# EAGLE library part X11X2 (library connectors)
Connector 2x11 pins
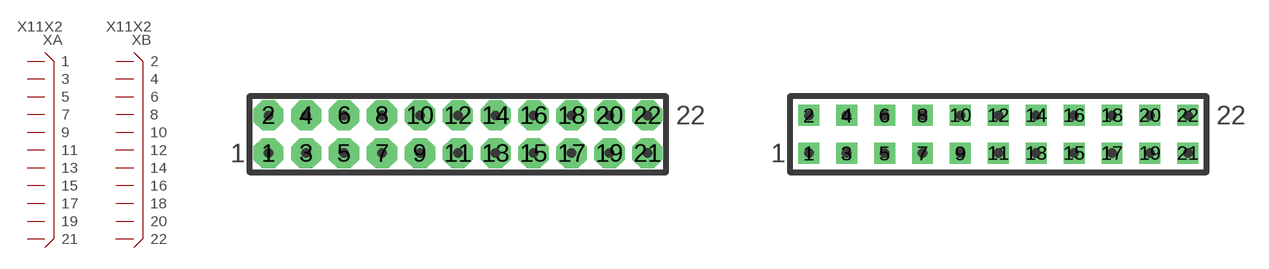
[diagram p46: symbol with the pads of X22N-DIL; footprints X22N-DIL, X22R-DIL]

Designator prefix X; gates A=X22A B=X22B

## X11X2D  [X22N-DIL]
1  A:1
2  B:2
3  A:3
4  B:4
5  A:5
6  B:6
7  A:7
8  B:8
9  A:9
10  B:10
11  A:11
12  B:12
13  A:13
14  B:14
15  A:15
16  B:16
17  A:17
18  B:18
19  A:19
20  B:20
21  A:21
22  B:22

## X11X2DR  [X22R-DIL]
Pads as for X22N-DIL

## X11X2I  [X22N-IDC]
Pads as for X22N-DIL

## X11X2  [X22N-IDC]
Pads as for X22N-DIL

## X11X2IR  [X22R-IDC]
Pads as for X22N-DIL

## Footprint X22N-DIL (pad centres in mm)
Connector 22 pins, DIL
drill 0.889 pad 2.032 octagon: 1 -12.7,-1.27; 2 -12.7,1.27; 3 -10.16,-1.27; 4 -10.16,1.27; 5 -7.62,-1.27; 6 -7.62,1.27; 7 -5.08,-1.27; 8 -5.08,1.27; 9 -2.54,-1.27; 10 -2.54,1.27; 11 0,-1.27; 12 0,1.27; 13 2.54,-1.27; 14 2.54,1.27; 15 5.08,-1.27; 16 5.08,1.27; 17 7.62,-1.27; 18 7.62,1.27; 19 10.16,-1.27; 20 10.16,1.27; 21 12.7,-1.27; 22 12.7,1.27

## Footprint X22R-DIL (pad centres in mm)
Connector 22 pins, DIL, reduced pads
drill 0.889 pad 1.397 square: 1 -12.7,-1.27; 2 -12.7,1.27; 3 -10.16,-1.27; 4 -10.16,1.27; 5 -7.62,-1.27; 6 -7.62,1.27; 7 -5.08,-1.27; 8 -5.08,1.27; 9 -2.54,-1.27; 10 -2.54,1.27; 11 0,-1.27; 12 0,1.27; 13 2.54,-1.27; 14 2.54,1.27; 15 5.08,-1.27; 16 5.08,1.27; 17 7.62,-1.27; 18 7.62,1.27; 19 10.16,-1.27; 20 10.16,1.27; 21 12.7,-1.27; 22 12.7,1.27

## Footprint X22N-IDC (pad centres in mm)
Connector 22 pins, IDC
drill 0.889 pad 2.032 octagon: 1 -12.7,-1.27; 2 -12.7,1.27; 3 -10.16,-1.27; 4 -10.16,1.27; 5 -7.62,-1.27; 6 -7.62,1.27; 7 -5.08,-1.27; 8 -5.08,1.27; 9 -2.54,-1.27; 10 -2.54,1.27; 11 0,-1.27; 12 0,1.27; 13 2.54,-1.27; 14 2.54,1.27; 15 5.08,-1.27; 16 5.08,1.27; 17 7.62,-1.27; 18 7.62,1.27; 19 10.16,-1.27; 20 10.16,1.27; 21 12.7,-1.27; 22 12.7,1.27

## Footprint X22R-IDC (pad centres in mm)
Connector 22 pins, IDC, reduced pads
drill 0.889 pad 1.397 square: 1 -12.7,-1.27; 2 -12.7,1.27; 3 -10.16,-1.27; 4 -10.16,1.27; 5 -7.62,-1.27; 6 -7.62,1.27; 7 -5.08,-1.27; 8 -5.08,1.27; 9 -2.54,-1.27; 10 -2.54,1.27; 11 0,-1.27; 12 0,1.27; 13 2.54,-1.27; 14 2.54,1.27; 15 5.08,-1.27; 16 5.08,1.27; 17 7.62,-1.27; 18 7.62,1.27; 19 10.16,-1.27; 20 10.16,1.27; 21 12.7,-1.27; 22 12.7,1.27